# Altium integrated library Transistor.IntLib: 3457 symbols (part 32 of 78)
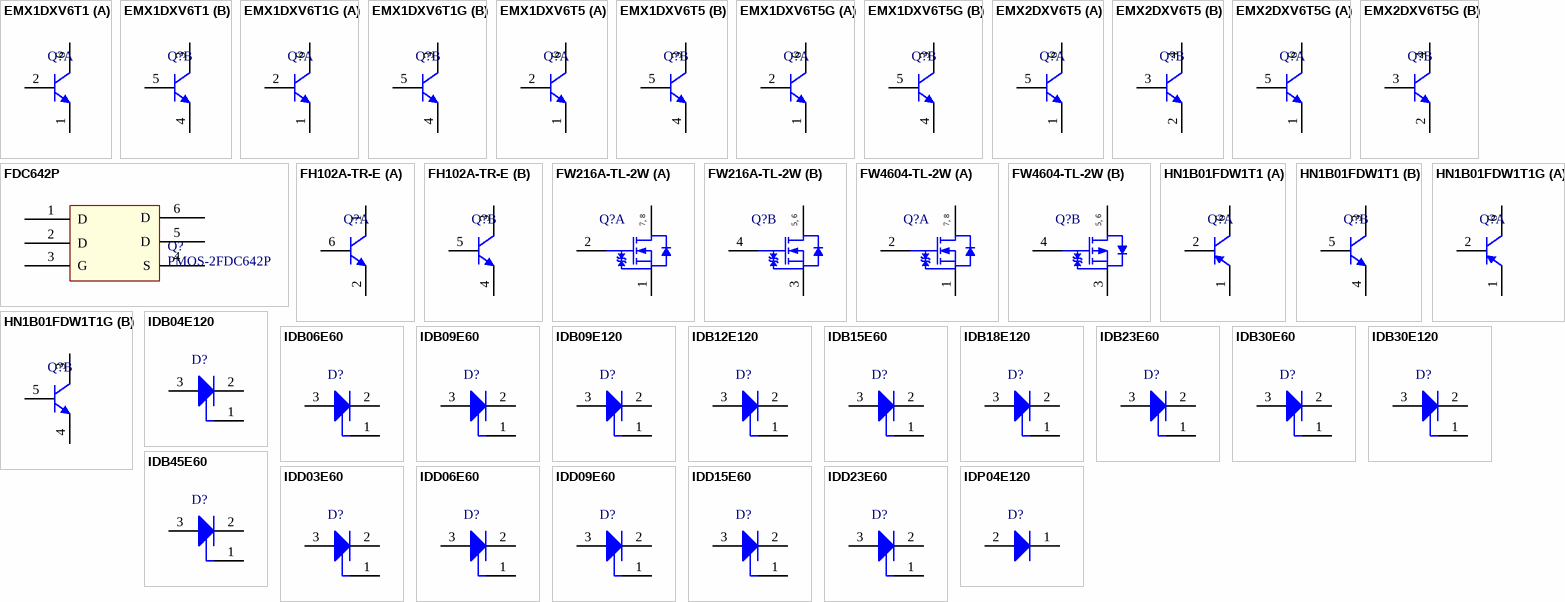
[diagram p125: symbols EMX1DXV6T1 to IDP04E120]

## IDD09E60
designator D?
Fast Switching EmCon Diode, -55 to 175 degC, PG-TO252-3-1, Reel, Green; Manufacturer: Infineon; PartNumber: IDD09E60; Green: TRUE; IF (max): 19.3 A; IF (typ): 9 A; IF,SM (max): 40 A; IR (max): 50 uA; Irrm (typ): 10.2 A; Ptot (max): 57.7 W; Qrr (typ): 343 nC; RthJC (max): 2.6 K/W; Trr (typ): 75 ns; VF (typ): 1.5 V; DatasheetVersion: Rev. 2.2; PackageVersion: Rev. 2.2, 04/2007; PackageReference: PG-TO252-3-1_A; PackageDescription: 3-Pin Plastic (Green) Transistor Single Outline Package, Body 6.565 x 6.1 mm, Pitch 2.28 mm; Supplier 1: Mouser; Supplier Part Number 1: 726-IDD09E60; Supplier 2: Digi-Key; Supplier Part Number 2: IDD09E60-ND; Packing: Reel; Mounting Technology: Surface Mount; ComponentLink1Description: Manufacturer URL; ComponentLink1URL: http://www.infineon.com/; ComponentLink2Description: Datasheet; ComponentLink2URL: http://www.infineon.com/dgdl/IDD09e60Grev2_2.pdf?folderId=db3a304412b407950112b438b6e36b79&fileId=db3a304412b407950112b438b76c6b7a; ComponentLink3Description: Package Specification; ComponentLink3URL: http://www.infineon.com/dgdl/IDD03E60Grev2_2.pdf?folderId=db3a304412b407950112b438b4176b74&fileId=db3a304412b407950112b438b49f6b75
footprint INF-PG-TO252-3-1_A_N (DPAK, 3-Leads, Body 6.565x6.1mm, Pitch 2.28mm, IPC Medium Density)
footprint INF-PG-TO252-3-1_A_L (DPAK, 3-Leads, Body 6.565x6.1mm, Pitch 2.28mm, IPC High Density)
footprint INF-PG-TO252-3-1_A_M (DPAK, 3-Leads, Body 6.565x6.1mm, Pitch 2.28mm, IPC Low Density)
pins: 1 NC, 2 K, 3 A

## IDD15E60
designator D?
Fast Switching EmCon Diode, -55 to 175 degC, PG-TO252-3-1, Reel, Green; Manufacturer: Infineon; PartNumber: IDD15E60; Green: TRUE; IF (max): 29.2 A; IF (typ): 15 A; IF,SM (max): 60 A; IR (max): 50 uA; Irrm (typ): 13.7 A; Ptot (max): 83.3 W; Qrr (typ): 595 nC; RthJC (max): 1.8 K/W; Trr (typ): 87 ns; VF (typ): 1.5 V; DatasheetVersion: Rev. 2.2; PackageVersion: Rev. 2.2, 04/2007; PackageReference: PG-TO252-3-1_A; PackageDescription: 3-Pin Plastic (Green) Transistor Single Outline Package, Body 6.565 x 6.1 mm, Pitch 2.28 mm; Supplier 1: Mouser; Supplier Part Number 1: 726-IDD15E60; Supplier 2: Digi-Key; Supplier Part Number 2: IDD15E60-ND; Packing: Reel; Mounting Technology: Surface Mount; ComponentLink1Description: Manufacturer URL; ComponentLink1URL: http://www.infineon.com/; ComponentLink2Description: Datasheet; ComponentLink2URL: http://www.infineon.com/dgdl/IDD15e60Grev2_2.pdf?folderId=db3a304412b407950112b408e8c90004&fileId=db3a304412b407950112b438e9ab6bca; ComponentLink3Description: Package Specification; ComponentLink3URL: http://www.infineon.com/dgdl/IDD03E60Grev2_2.pdf?folderId=db3a304412b407950112b438b4176b74&fileId=db3a304412b407950112b438b49f6b75
footprint INF-PG-TO252-3-1_A_N (DPAK, 3-Leads, Body 6.565x6.1mm, Pitch 2.28mm, IPC Medium Density)
footprint INF-PG-TO252-3-1_A_L (DPAK, 3-Leads, Body 6.565x6.1mm, Pitch 2.28mm, IPC High Density)
footprint INF-PG-TO252-3-1_A_M (DPAK, 3-Leads, Body 6.565x6.1mm, Pitch 2.28mm, IPC Low Density)
pins: 1 NC, 2 K, 3 A

## IDD23E60
designator D?
Fast Switching EmCon Diode, -55 to 175 degC, PG-TO252-3, Reel, Green; Manufacturer: Infineon; PartNumber: IDD23E60; Green: TRUE; Ptot (max): 115.4 W; DatasheetVersion: Rev. 2.2; PackageVersion: Apr-07; PackageReference: PG-TO252-3; PackageDescription: 3-Pin Plastic (Green) Transistor Single Outline Package, 6.565 x 6.1 mm Body, 2.28 mm Pitch; Supplier 1: Mouser; Supplier Part Number 1: N/A; Halogen-free: FALSE; Mounting Technology: Surface Mount; ComponentLink1Description: Manufacturer URL; ComponentLink1URL: http://www.infineon.com/; ComponentLink2Description: Datasheet; ComponentLink2URL: http://www.infineon.com/dgdl/IDD23e60Grev2_2.pdf?folderId=db3a304412b407950112b408e8c90004&fileId=db3a304412b407950112b438e1df6bc2; ComponentLink3Description: Package Specification; ComponentLink3URL: http://www.infineon.com/dgdl/IDD23e60Grev2_2.pdf?folderId=db3a304412b407950112b408e8c90004&fileId=db3a304412b407950112b438e1df6bc2
footprint INF-PG-TO252-3_B_N (DPAK, 3-Leads, Body 6.565x6.1mm, Pitch 2.28mm, IPC Medium Density)
footprint INF-PG-TO252-3_B_L (DPAK, 3-Leads, Body 6.565x6.1mm, Pitch 2.28mm, IPC High Density)
footprint INF-PG-TO252-3_B_M (DPAK, 3-Leads, Body 6.565x6.1mm, Pitch 2.28mm, IPC Low Density)
pins: 1 NC, 2 C, 3 A

## IDP04E120
designator D?
Fast Switching Diode, -55 to 150 degC, PG-TO220-2-1, Tube, Green; Manufacturer: Infineon; PartNumber: IDP04E120; Green: TRUE; IF (max): 11.2 A; IF (typ): 4 A; IF,SM (max): 28 A; IR (max): 100 uA; Irrm (typ): 7.15 A; Ptot (max): 43.1 W; Qrr (typ): 330 nC; RthJC (max): 2.9 K/W; Trr (typ): 115 ns; VF (typ): 1.65 V; DatasheetVersion: Rev. 2.3; PackageVersion: Rev. 01, 10/2008; PackageReference: PG-TO220-2-1; PackageDescription: 2-Pin Plastic (Green) Transistor Single Outline Package, Body 9.25 x 10 mm, Pitch 5.08 mm; Supplier 1: Mouser; Supplier Part Number 1: 726-IDP04E120; Supplier 2: Digi-Key; Supplier Part Number 2: IDP04E120-ND; Halogen-free: TRUE; Packing: Tube; Mounting Technology: Through Hole; ComponentLink1Description: Manufacturer URL; ComponentLink1URL: http://www.infineon.com/; ComponentLink2Description: Datasheet; ComponentLink2URL: http://www.infineon.com/dgdl/IDP04E120_v2_3G%5B1%5D.pdf?folderId=db3a304314dca38901151224afae0c96&fileId=db3a30432313ff5e01237a627ecb7bfd; ComponentLink3Description: Package Specification; ComponentLink3URL: http://www.infineon.com/dgdl/IDP09E120_v2_3G%5B1%5D.pdf?folderId=db3a304314dca38901151224afae0c96&fileId=db3a30432313ff5e01237a7d849d7c11
footprint INF-PG-TO220-2-1 (FM, 2-Leads, Body 10x4.4mm, Pitch 5.08mm)
pins: 1 K, 2 A

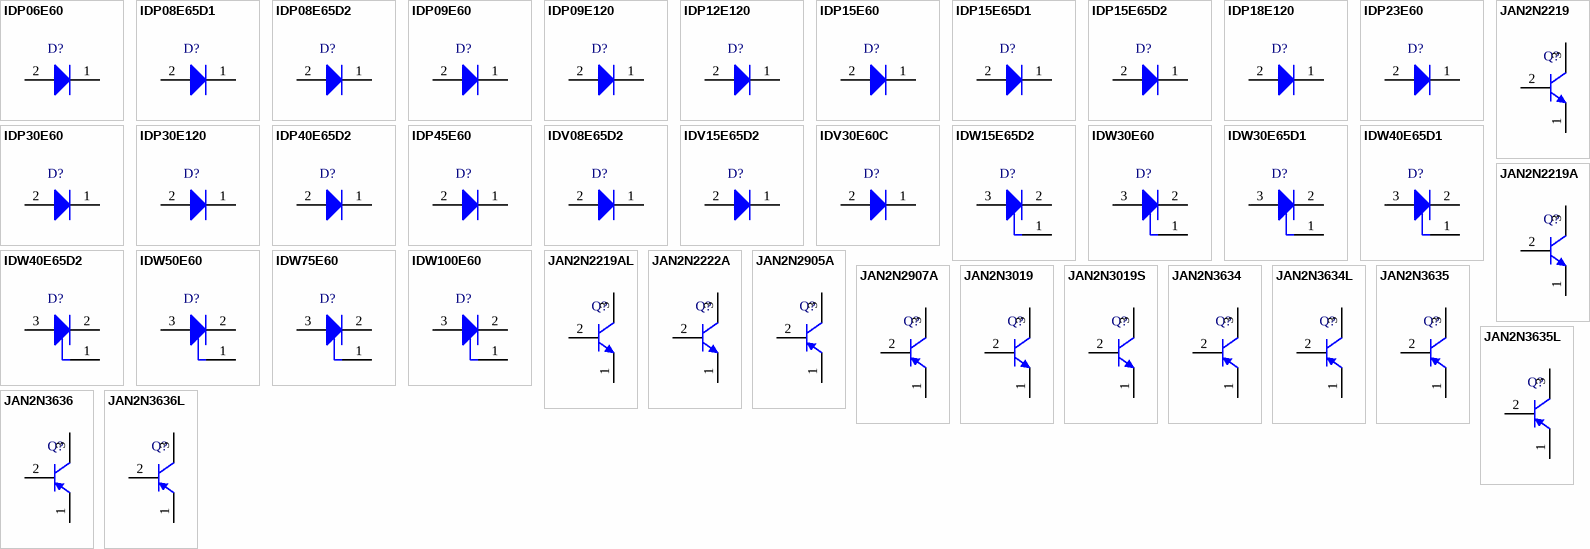
[diagram p37: symbols IDP06E60 to JAN2N3636L]

## IDP06E60
designator D?
Fast Switching Diode, -55 to 175 degC, PG-TO220-2, Tube, Green; Manufacturer: Infineon; PartNumber: IDP06E60; Green: TRUE; IF (max): 14.7 A; IF (typ): 6 A; IF,SM (max): 29 A; IR (max): 50 uA; Irrm (typ): 6.5 A; Ptot (max): 46.9 W; Qrr (typ): 240 nC; RthJC (max): 3.2 K/W; Trr (typ): 70 ns; VF (typ): 1.5 V; DatasheetVersion: Rev. 2.4; PackageVersion: Rev. 01, 10/2008; PackageReference: PG-TO220-2-1; PackageDescription: 2-Pin Plastic (Green) Transistor Single Outline Package, Body 9.25 x 10 mm, Pitch 5.08 mm; Supplier 1: Mouser; Supplier Part Number 1: 726-IDP06E60; Supplier 2: Digi-Key; Supplier Part Number 2: IDP06E60-ND; Halogen-free: TRUE; Packing: Tube; Mounting Technology: Through Hole; ComponentLink1Description: Manufacturer URL; ComponentLink1URL: http://www.infineon.com/; ComponentLink2Description: Datasheet; ComponentLink2URL: http://www.infineon.com/dgdl/IDP06E60_rev2_4G.pdf?folderId=db3a304314dca38901151224afae0c96&fileId=db3a30432313ff5e01237a0353657ba8; ComponentLink3Description: Package Specification; ComponentLink3URL: http://www.infineon.com/dgdl/IDP09E120_v2_3G%5B1%5D.pdf?folderId=db3a304314dca38901151224afae0c96&fileId=db3a30432313ff5e01237a7d849d7c11
footprint INF-PG-TO220-2-1 (FM, 2-Leads, Body 10x4.4mm, Pitch 5.08mm)
pins: 1 K, 2 A

## IDP08E65D1
designator D?
Rapid Switching Emitter Controlled Diode, -40 to 175 degC, PG-TO220-2-1, Tube, Green; Manufacturer: Infineon; PartNumber: IDP08E65D1; Green: TRUE; IF (typ): 8 A; IF,SM (max): 64 A; IR (max): 40 uA; Irrm (typ): 2.8 A; Ptot (max): 56 W; Qrr (typ): 0.17 uC; RthJC (max): 2.69 K/W; Trr (typ): 80 ns; VF (typ): 1.35 V; DatasheetVersion: Rev. 1.1; PackageVersion: Rev. 01, 10/2008; PackageReference: PG-TO220-2-1; PackageDescription: 2-Pin Plastic (Green) Transistor Single Outline Package, Body 9.25 x 10 mm, Pitch 5.08 mm; Supplier 1: Newark; Supplier Part Number 1: 33X0386; Supplier 2: Farnell; Supplier Part Number 2: 2363262; Halogen-free: TRUE; Packing: Tube; Mounting Technology: Through Hole; ComponentLink1Description: Manufacturer URL; ComponentLink1URL: http://www.infineon.com/; ComponentLink2Description: Datasheet; ComponentLink2URL: http://www.infineon.com/dgdl/IDP08E65D1_1_1.pdf?folderId=db3a304314dca38901151224afae0c96&fileId=db3a30433d6895c8013d68d2c3c80025; ComponentLink3Description: Package Specification; ComponentLink3URL: http://www.infineon.com/dgdl/IDP09E120_v2_3G%5B1%5D.pdf?folderId=db3a304314dca38901151224afae0c96&fileId=db3a30432313ff5e01237a7d849d7c11
footprint INF-PG-TO220-2-1 (FM, 2-Leads, Body 10x4.4mm, Pitch 5.08mm)
pins: 1 K, 2 A

## IDP08E65D2
designator D?
Rapid Switching Emitter Controlled Diode, -40 to 175 degC, PG-TO220-2-1, Tube, Green; Manufacturer: Infineon; PartNumber: IDP08E65D2; Green: TRUE; IF (typ): 8 A; IF,SM (max): 60 A; IR (max): 40 uA; Irrm (typ): 2.5 A; Ptot (max): 56 W; Qrr (typ): 0.08 uC; RthJC (max): 2.69 K/W; Trr (typ): 40 ns; VF (typ): 1.6 V; DatasheetVersion: Rev. 1.1; PackageVersion: Rev. 01, 10/2008; PackageReference: PG-TO220-2-1; PackageDescription: 2-Pin Plastic (Green) Transistor Single Outline Package, Body 9.25 x 10 mm, Pitch 5.08 mm; Supplier 1: Newark; Supplier Part Number 1: 33X0387; Supplier 2: Farnell; Supplier Part Number 2: 2363263; Halogen-free: TRUE; Packing: Tube; Mounting Technology: Through Hole; ComponentLink1Description: Manufacturer URL; ComponentLink1URL: http://www.infineon.com/; ComponentLink2Description: Datasheet; ComponentLink2URL: http://www.infineon.com/dgdl/DS_IDP08E65D2_1_1+%282%29.pdf?folderId=db3a304314dca38901151224afae0c96&fileId=db3a30433d68e984013d6944ca9a05e0; ComponentLink3Description: Package Specification; ComponentLink3URL: http://www.infineon.com/dgdl/IDP09E120_v2_3G%5B1%5D.pdf?folderId=db3a304314dca38901151224afae0c96&fileId=db3a30432313ff5e01237a7d849d7c11
footprint INF-PG-TO220-2-1 (FM, 2-Leads, Body 10x4.4mm, Pitch 5.08mm)
pins: 1 K, 2 A

## IDP09E60
designator D?
Fast Switching Diode, -55 to 175 degC, PG-TO220-2-1, Tube, Green; Manufacturer: Infineon; PartNumber: IDP09E60; Green: TRUE; Ptot (max): 57.7 W; DatasheetVersion: Rev. 2.4; PackageVersion: Rev. 01, 10/2008; PackageReference: PG-TO220-2-1; PackageDescription: 2-Pin Plastic (Green) Transistor Single Outline Package, Body 9.25 x 10 mm, Pitch 5.08 mm; Supplier 1: Mouser; Supplier Part Number 1: 726-IDP09E60; Halogen-free: FALSE; Mounting Technology: Through Hole; ComponentLink1Description: Manufacturer URL; ComponentLink1URL: http://www.infineon.com/; ComponentLink2Description: Datasheet; ComponentLink2URL: http://www.infineon.com/dgdl/IDP09E60_rev2_4G.pdf?folderId=db3a304412b407950112b438bee86b88&fileId=db3a304412b407950112b438bf706b89; ComponentLink3Description: Package Specification; ComponentLink3URL: http://www.infineon.com/dgdl/IDP09E120_v2_3G%5B1%5D.pdf?folderId=db3a304314dca38901151224afae0c96&fileId=db3a30432313ff5e01237a7d849d7c11
footprint INF-PG-TO220-2-1 (FM, 2-Leads, Body 10x4.4mm, Pitch 5.08mm)
pins: 1 C, 2 A

## IDP09E120
designator D?
Fast Switching Diode, -55 to 150 degC, PG-TO220-2, Tube, Green; Manufacturer: Infineon; PartNumber: IDP09E120; Green: TRUE; IF (max): 23 A; IF (typ): 9 A; IF,SM (max): 50 A; IR (max): 100 uA; Irrm (typ): 13.3 A; Ptot (max): 69 W; Qrr (typ): 950 nC; RthJC (max): 1.8 K/W; Trr (typ): 140 ns; VF (typ): 1.65 V; DatasheetVersion: Rev. 2.3; PackageVersion: Rev. 01, 10/2008; PackageReference: PG-TO220-2-1; PackageDescription: 2-Pin Plastic (Green) Transistor Single Outline Package, Body 9.25 x 10 mm, Pitch 5.08 mm; Supplier 1: Mouser; Supplier Part Number 1: 726-IDP09E120; Supplier 2: Digi-Key; Supplier Part Number 2: IDP09E120-ND; Halogen-free: TRUE; Packing: Tube; Mounting Technology: Through Hole; ComponentLink1Description: Manufacturer URL; ComponentLink1URL: http://www.infineon.com/; ComponentLink2Description: Datasheet; ComponentLink2URL: http://www.infineon.com/dgdl/IDP09E120_v2_3G%5B1%5D.pdf?folderId=db3a304314dca38901151224afae0c96&fileId=db3a30432313ff5e01237a7d849d7c11; ComponentLink3Description: Package Specification; ComponentLink3URL: http://www.infineon.com/dgdl/IDP09E120_v2_3G%5B1%5D.pdf?folderId=db3a304314dca38901151224afae0c96&fileId=db3a30432313ff5e01237a7d849d7c11
footprint INF-PG-TO220-2-1 (FM, 2-Leads, Body 10x4.4mm, Pitch 5.08mm)
pins: 1 K, 2 A

## IDP12E120
designator D?
Fast Switching Diode, -55 to 150 degC, PG-TO220-2, Tube, Green; Manufacturer: Infineon; PartNumber: IDP12E120; Green: TRUE; IF (max): 28 A; IF (typ): 12 A; IF,SM (max): 63 A; IR (max): 100 uA; Irrm (typ): 17 A; Ptot (max): 96 W; Qrr (typ): 1,200 nC; RthJC (max): 1.3 K/W; Trr (typ): 150 ns; VF (typ): 1.65 V; DatasheetVersion: Rev. 2.3; PackageVersion: Rev. 01, 10/2008; PackageReference: PG-TO220-2-1; PackageDescription: 2-Pin Plastic (Green) Transistor Single Outline Package, Body 9.25 x 10 mm, Pitch 5.08 mm; Supplier 1: Mouser; Supplier Part Number 1: 726-IDP12E120; Supplier 2: Digi-Key; Supplier Part Number 2: IDP12E120-ND; Halogen-free: TRUE; Packing: Tube; Mounting Technology: Through Hole; ComponentLink1Description: Manufacturer URL; ComponentLink1URL: http://www.infineon.com/; ComponentLink2Description: Datasheet; ComponentLink2URL: http://www.infineon.com/dgdl/IDP12E120_v2_3G%5B1%5D.pdf?folderId=db3a304314dca38901151224afae0c96&fileId=db3a30432313ff5e012374c3dade485b; ComponentLink3Description: Package Specification; ComponentLink3URL: http://www.infineon.com/dgdl/IDP09E120_v2_3G%5B1%5D.pdf?folderId=db3a304314dca38901151224afae0c96&fileId=db3a30432313ff5e01237a7d849d7c11
footprint INF-PG-TO220-2-1 (FM, 2-Leads, Body 10x4.4mm, Pitch 5.08mm)
pins: 1 K, 2 A

## IDP15E60
designator D?
Fast EmCon Diode, -55 to 175 degC, PG-TO220-2-1, Tube, Green; Manufacturer: Infineon; PartNumber: IDP15E60; Green: TRUE; IF (max): 29.2 A; IF (typ): 15 A; IF,SM (max): 60 A; IR (max): 50 uA; Irrm (typ): 13.7 A; Ptot (max): 83.3 W; Qrr (typ): 595 nC; RthJC (max): 1.8 K/W; Trr (typ): 87 ns; VF (typ): 1.5 V; DatasheetVersion: Rev. 2.4; PackageVersion: Rev. 01, 10/2008; PackageReference: PG-TO220-2-1; PackageDescription: 2-Pin Plastic (Green) Transistor Single Outline Package, Body 9.25 x 10 mm, Pitch 5.08 mm; Supplier 1: Mouser; Supplier Part Number 1: 726-IDP15E60; Supplier 2: Newark; Supplier Part Number 2: 47W3448; Supplier 3: Farnell; Supplier Part Number 3: 2212802; Supplier 4: Digi-Key; Supplier Part Number 4: IDP15E60-ND; Halogen-free: TRUE; Packing: Tube; Mounting Technology: Through Hole; ComponentLink1Description: Manufacturer URL; ComponentLink1URL: http://www.infineon.com/; ComponentLink2Description: Datasheet; ComponentLink2URL: http://www.infineon.com/dgdl/IDP15E60_rev2_4G.pdf?folderId=db3a304314dca38901151224afae0c96&fileId=db3a30432313ff5e01237a0a55787bbc; ComponentLink3Description: Package Specification; ComponentLink3URL: http://www.infineon.com/dgdl/IDP09E120_v2_3G%5B1%5D.pdf?folderId=db3a304314dca38901151224afae0c96&fileId=db3a30432313ff5e01237a7d849d7c11
footprint INF-PG-TO220-2-1 (FM, 2-Leads, Body 10x4.4mm, Pitch 5.08mm)
pins: 1 K, 2 A

## IDP15E65D1
designator D?
Rapid Switching Emitter Controlled Diode, -40 to 175 degC, PG-TO220-2-1, Tube, Green; Manufacturer: Infineon; PartNumber: IDP15E65D1; Green: TRUE; IF (typ): 15 A; IF,SM (max): 120 A; IR (max): 40 uA; Irrm (typ): 3.4 A; Ptot (max): 92 W; Qrr (typ): 0.28 uC; RthJC (max): 1.64 K/W; Trr (typ): 114 ns; VF (typ): 1.35 V; DatasheetVersion: Rev. 1.1; PackageVersion: Rev. 01, 10/2008; PackageReference: PG-TO220-2-1; PackageDescription: 2-Pin Plastic (Green) Transistor Single Outline Package, Body 9.25 x 10 mm, Pitch 5.08 mm; Supplier 1: Newark; Supplier Part Number 1: 33X0388; Supplier 2: Farnell; Supplier Part Number 2: 2363265; Halogen-free: TRUE; Packing: Tube; Mounting Technology: Through Hole; ComponentLink1Description: Manufacturer URL; ComponentLink1URL: http://www.infineon.com/; ComponentLink2Description: Datasheet; ComponentLink2URL: http://www.infineon.com/dgdl/IDP15E65D1_1_1+%282%29.pdf?folderId=db3a304314dca38901151224afae0c96&fileId=db3a30433d68e984013d691402dd0153; ComponentLink3Description: Package Specification; ComponentLink3URL: http://www.infineon.com/dgdl/IDP09E120_v2_3G%5B1%5D.pdf?folderId=db3a304314dca38901151224afae0c96&fileId=db3a30432313ff5e01237a7d849d7c11
footprint INF-PG-TO220-2-1 (FM, 2-Leads, Body 10x4.4mm, Pitch 5.08mm)
pins: 1 K, 2 A

## IDP15E65D2
designator D?
Rapid Switching Emitter Controlled Diode, -40 to 175 degC, PG-TO220-2-1, Tube, Green; Manufacturer: Infineon; PartNumber: IDP15E65D2; Green: TRUE; IF (typ): 15 A; IF,SM (max): 100 A; IR (max): 40 uA; Irrm (typ): 3.3 A; Ptot (max): 92 W; Qrr (typ): 0.07 uC; RthJC (max): 1.63 K/W; Trr (typ): 47 ns; VF (typ): 1.6 V; DatasheetVersion: Rev. 1.1; PackageVersion: Rev. 01, 10/2008; PackageReference: PG-TO220-2-1; PackageDescription: 2-Pin Plastic (Green) Transistor Single Outline Package, Body 9.25 x 10 mm, Pitch 5.08 mm; Supplier 1: Newark; Supplier Part Number 1: 33X0389; Supplier 2: Farnell; Supplier Part Number 2: 2363266; Halogen-free: TRUE; Packing: Tube; Mounting Technology: Through Hole; ComponentLink1Description: Manufacturer URL; ComponentLink1URL: http://www.infineon.com/; ComponentLink2Description: Datasheet; ComponentLink2URL: http://www.infineon.com/dgdl/DS_IDP15E65D2_1_1.pdf?folderId=db3a304314dca38901151224afae0c96&fileId=db3a30433d68e984013d69679d8b06a0; ComponentLink3Description: Package Specification; ComponentLink3URL: http://www.infineon.com/dgdl/IDP09E120_v2_3G%5B1%5D.pdf?folderId=db3a304314dca38901151224afae0c96&fileId=db3a30432313ff5e01237a7d849d7c11
footprint INF-PG-TO220-2-1 (FM, 2-Leads, Body 10x4.4mm, Pitch 5.08mm)
pins: 1 K, 2 A

## IDP18E120
designator D?
Fast Switching Diode, -55 to 150 degC, PG-TO220-2-1, Tube, Green; Manufacturer: Infineon; PartNumber: IDP18E120; Green: TRUE; IF (max): 31 A; IF (typ): 18 A; IF,SM (max): 78 A; IR (max): 100 uA; Irrm (typ): 20.2 A; Ptot (max): 113 W; Qrr (typ): 1,880 nC; RthJC (max): 1.1 K/W; Trr (typ): 195 ns; VF (typ): 1.65 V; DatasheetVersion: Rev. 2.3; PackageVersion: Rev. 01, 10/2008; PackageReference: PG-TO220-2-1; PackageDescription: 2-Pin Plastic (Green) Transistor Single Outline Package, Body 9.25 x 10 mm, Pitch 5.08 mm; Supplier 1: Mouser; Supplier Part Number 1: 726-IDP18E120; Supplier 2: Digi-Key; Supplier Part Number 2: IDP18E120-ND; Halogen-free: TRUE; Packing: Tube; Mounting Technology: Through Hole; ComponentLink1Description: Manufacturer URL; ComponentLink1URL: http://www.infineon.com/; ComponentLink2Description: Datasheet; ComponentLink2URL: http://www.infineon.com/dgdl/IDP18E120_v2_3G%5B1%5D.pdf?folderId=db3a304314dca38901151224afae0c96&fileId=db3a30432313ff5e01237a90bd2b7c24; ComponentLink3Description: Package Specification; ComponentLink3URL: http://www.infineon.com/dgdl/IDP09E120_v2_3G%5B1%5D.pdf?folderId=db3a304314dca38901151224afae0c96&fileId=db3a30432313ff5e01237a7d849d7c11
footprint INF-PG-TO220-2-1 (FM, 2-Leads, Body 10x4.4mm, Pitch 5.08mm)
pins: 1 K, 2 A

## IDP23E60
designator D?
Fast Switching Diode, -55 to 175 degC, PG-TO220-2, Tube, Green; Manufacturer: Infineon; PartNumber: IDP23E60; Green: TRUE; IF (max): 41 A; IF (typ): 23 A; IF,SM (max): 89 A; IR (max): 50 uA; Irrm (typ): 17 A; Ptot (max): 115 W; Qrr (typ): 970 nC; RthJC (max): 1.3 K/W; Trr (typ): 120 ns; VF (typ): 1.5 V; DatasheetVersion: Rev. 2.4; PackageVersion: Rev. 01, 10/2008; PackageReference: PG-TO220-2-1; PackageDescription: 2-Pin Plastic (Green) Transistor Single Outline Package, Body 9.25 x 10 mm, Pitch 5.08 mm; Supplier 1: Mouser; Supplier Part Number 1: 726-IDP23E60; Supplier 2: Digi-Key; Supplier Part Number 2: IDP23E60-ND; Halogen-free: TRUE; Packing: Tube; Mounting Technology: Through Hole; ComponentLink1Description: Manufacturer URL; ComponentLink1URL: http://www.infineon.com/; ComponentLink2Description: Datasheet; ComponentLink2URL: http://www.infineon.com/dgdl/IDP23E60_rev2_4G.pdf?folderId=db3a304314dca38901151224afae0c96&fileId=db3a30432313ff5e01237a0fb1467bc1; ComponentLink3Description: Package Specification; ComponentLink3URL: http://www.infineon.com/dgdl/IDP09E120_v2_3G%5B1%5D.pdf?folderId=db3a304314dca38901151224afae0c96&fileId=db3a30432313ff5e01237a7d849d7c11
footprint INF-PG-TO220-2-1 (FM, 2-Leads, Body 10x4.4mm, Pitch 5.08mm)
pins: 1 K, 2 A

## IDP30E60
designator D?
Fast Switching Diode, -55 to 175 degC, PG-TO220-2-1, Tube, Green; Manufacturer: Infineon; PartNumber: IDP30E60; Green: TRUE; IF (max): 52.3 A; IF (typ): 30 A; IF,SM (max): 117 A; IR (max): 50 uA; Irrm (typ): 19 A; Ptot (max): 142.9 W; Qrr (typ): 1,100 nC; RthJC (max): 15 K/W; Trr (typ): 126 ns; VF (typ): 1.5 V; DatasheetVersion: Rev. 2.4; PackageVersion: Rev. 01, 10/2008; PackageReference: PG-TO220-2-1; PackageDescription: 2-Pin Plastic (Green) Transistor Single Outline Package, Body 9.25 x 10 mm, Pitch 5.08 mm; Supplier 1: Mouser; Supplier Part Number 1: 726-IDP30E60; Supplier 2: Digi-Key; Supplier Part Number 2: IDP30E60-ND; Halogen-free: TRUE; Packing: Tube; Mounting Technology: Through Hole; ComponentLink1Description: Manufacturer URL; ComponentLink1URL: http://www.infineon.com/; ComponentLink2Description: Datasheet; ComponentLink2URL: http://www.infineon.com/dgdl/IDP30E60_rev2_4G.pdf?folderId=db3a304314dca38901151224afae0c96&fileId=db3a30432313ff5e01237a4486497bd5; ComponentLink3Description: Package Specification; ComponentLink3URL: http://www.infineon.com/dgdl/IDP09E120_v2_3G%5B1%5D.pdf?folderId=db3a304314dca38901151224afae0c96&fileId=db3a30432313ff5e01237a7d849d7c11
footprint INF-PG-TO220-2-1 (FM, 2-Leads, Body 10x4.4mm, Pitch 5.08mm)
pins: 1 K, 2 A

## IDP30E120
designator D?
Fast Switching Diode, -55 to 150 degC, PG-TO220-2, Tube, Green; Manufacturer: Infineon; PartNumber: IDP30E120; Green: TRUE; IF (max): 50 A; IF (typ): 30 A; IF,SM (max): 102 A; IR (max): 100 uA; Irrm (typ): 23.7 A; Ptot (max): 138 W; Qrr (typ): 2,630 nC; RthJC (max): 0.9 K/W; Trr (typ): 243 ns; VF (typ): 1.65 V; DatasheetVersion: Rev. 2.3; PackageVersion: Rev. 01, 10/2008; PackageReference: PG-TO220-2-1; PackageDescription: 2-Pin Plastic (Green) Transistor Single Outline Package, Body 9.25 x 10 mm, Pitch 5.08 mm; Supplier 1: Mouser; Supplier Part Number 1: 726-IDP30E120; Supplier 2: Digi-Key; Supplier Part Number 2: IDP30E120-ND; Halogen-free: TRUE; Packing: Tube; Mounting Technology: Through Hole; ComponentLink1Description: Manufacturer URL; ComponentLink1URL: http://www.infineon.com/; ComponentLink2Description: Datasheet; ComponentLink2URL: http://www.infineon.com/dgdl/IDP30E120_v2_3G%5B1%5D.pdf?folderId=db3a304314dca38901151224afae0c96&fileId=db3a30432313ff5e01237a96f3a77c37; ComponentLink3Description: Package Specification; ComponentLink3URL: http://www.infineon.com/dgdl/IDP09E120_v2_3G%5B1%5D.pdf?folderId=db3a304314dca38901151224afae0c96&fileId=db3a30432313ff5e01237a7d849d7c11
footprint INF-PG-TO220-2-1 (FM, 2-Leads, Body 10x4.4mm, Pitch 5.08mm)
pins: 1 K, 2 A

## IDP40E65D2
designator D?
Rapid Switching Emitter Controlled Diode, -40 to 175 degC, PG-TO220-2-1, Tube, Green; Manufacturer: Infineon; PartNumber: IDP40E65D2; Green: TRUE; IF (typ): 40 A; IF,SM (max): 250 A; IR (max): 40 uA; Irrm (typ): 2.9 A; Ptot (max): 200 W; Qrr (typ): 0.13 uC; RthJC (max): 0.75 K/W; Trr (typ): 75 ns; VF (typ): 1.6 V; DatasheetVersion: Rev. 1.2; PackageVersion: Rev. 01, 10/2008; PackageReference: PG-TO220-2-1; PackageDescription: 2-Pin Plastic (Green) Transistor Single Outline Package, Body 9.25 x 10 mm, Pitch 5.08 mm; Supplier 1: Newark; Supplier Part Number 1: 33X0390; Supplier 2: Farnell; Supplier Part Number 2: 2363267; Halogen-free: TRUE; Packing: Tube; Mounting Technology: Through Hole; ComponentLink1Description: Manufacturer URL; ComponentLink1URL: http://www.infineon.com/; ComponentLink2Description: Datasheet; ComponentLink2URL: http://www.infineon.com/dgdl/DS_IDP40E65D2_1_2+%282%29.pdf?folderId=db3a304314dca38901151224afae0c96&fileId=db3a30433d68e984013d6d2dcfde1b1a; ComponentLink3Description: Package Specification; ComponentLink3URL: http://www.infineon.com/dgdl/IDP09E120_v2_3G%5B1%5D.pdf?folderId=db3a304314dca38901151224afae0c96&fileId=db3a30432313ff5e01237a7d849d7c11
footprint INF-PG-TO220-2-1 (FM, 2-Leads, Body 10x4.4mm, Pitch 5.08mm)
pins: 1 K, 2 A

## IDP45E60
designator D?
Fast Switching Diode, -55 to 175 degC, PG-TO220-2-2, Tube, Green; Manufacturer: Infineon; PartNumber: IDP45E60; Green: TRUE; IF (max): 71 A; IF (typ): 45 A; IF,SM (max): 162 A; IR (max): 50 uA; Irrm (typ): 23 A; Ptot (max): 187 W; Qrr (typ): 1,400 nC; RthJC (max): 0.8 K/W; Trr (typ): 140 ns; VF (typ): 1.5 V; DatasheetVersion: Rev. 2.4; PackageVersion: Rev. 01, 12/2009; PackageReference: PG-TO220-2-2; PackageDescription: 2-Pin Plastic (Green) Transistor Single Outline Package, Body 9.68 x 10.5 mm, Pitch 5.08 mm; Supplier 1: Mouser; Supplier Part Number 1: 726-IDP45E60; Supplier 2: Digi-Key; Supplier Part Number 2: IDP45E60-ND; Halogen-free: TRUE; Packing: Tube; Mounting Technology: Through Hole; ComponentLink1Description: Manufacturer URL; ComponentLink1URL: http://www.infineon.com/; ComponentLink2Description: Datasheet; ComponentLink2URL: http://www.infineon.com/dgdl/IDP45E60_rev2_4G.pdf?folderId=db3a304314dca38901151224afae0c96&fileId=db3a30432313ff5e01237a518c6e7be9; ComponentLink3Description: Package Specification; ComponentLink3URL: http://www.infineon.com/dgdl/IDV06S60C_2_0.pdf?folderId=db3a304314dca38901151224afae0c96&fileId=db3a304325afd6e001264bd38b060cca
footprint INF-PG-TO220-2-2 (FM, 2-Leads, Body 10.5x4.7mm, Pitch 5.08mm)
pins: 1 K, 2 A

## IDV08E65D2
designator D?
Rapid Switching Emitter Controlled Diode, -40 to 175 degC, PG-TO220-2, Tube, Green; Manufacturer: Infineon; PartNumber: IDV08E65D2; Green: TRUE; IF (typ): 8 A; IF,SM (max): 60 A; IR (max): 40 uA; Irrm (typ): 2.5 A; Ptot (max): 27.3 W; Qrr (typ): 0.08 uC; RthJC (max): 5.5 K/W; Trr (typ): 40 ns; VF (typ): 1.6 V; DatasheetVersion: Rev. 1.1; PackageVersion: Rev. 01, 12/2009; PackageReference: PG-TO220-2-22; PackageDescription: 2-Pin Plastic (Green) Transistor Single Outline Package, Body 9.68 x 10.5 mm, Pitch 5.08 mm; Supplier 1: Newark; Supplier Part Number 1: 33X0391; Supplier 2: Farnell; Supplier Part Number 2: 2363268; Halogen-free: TRUE; Packing: Tube; Mounting Technology: Through Hole; ComponentLink1Description: Manufacturer URL; ComponentLink1URL: http://www.infineon.com/; ComponentLink2Description: Datasheet; ComponentLink2URL: http://www.infineon.com/dgdl/DS_IDV08E65D2_1_1.pdf?folderId=db3a304314dca38901151224afae0c96&fileId=db3a30433d68e984013d6956ef27064a; ComponentLink3Description: Package Specification; ComponentLink3URL: http://www.infineon.com/dgdl/DS_IDV30E60C_2_1.pdf?folderId=db3a304314dca38901151224afae0c96&fileId=db3a30432a14dd54012a1d527a0d562d
footprint INF-PG-TO220-2-22 (FM, 2-Leads, Body 10.5x4.7mm, Pitch 5.08mm)
pins: 1 K, 2 A

## IDV15E65D2
designator D?
Rapid Switching Emitter Controlled Diode, -40 to 175 degC, PG-TO220-2, Tube, Green; Manufacturer: Infineon; PartNumber: IDV15E65D2; Green: TRUE; IF (typ): 15 A; IF,SM (max): 100 A; IR (max): 40 uA; Irrm (typ): 3.3 A; Ptot (max): 34 W; Qrr (typ): 0.07 uC; RthJC (max): 4.4 K/W; Trr (typ): 47 ns; VF (typ): 1.6 V; DatasheetVersion: Rev. 1.1; PackageVersion: Rev. 01, 12/2009; PackageReference: PG-TO220-2-22; PackageDescription: 2-Pin Plastic (Green) Transistor Single Outline Package, Body 9.68 x 10.5 mm, Pitch 5.08 mm; Supplier 1: Newark; Supplier Part Number 1: 33X0392; Supplier 2: Farnell; Supplier Part Number 2: 2363269; Halogen-free: TRUE; Packing: Tube; Mounting Technology: Through Hole; ComponentLink1Description: Manufacturer URL; ComponentLink1URL: http://www.infineon.com/; ComponentLink2Description: Datasheet; ComponentLink2URL: http://www.infineon.com/dgdl/DS_IDV15E65D2_1_1.pdf?folderId=db3a304314dca38901151224afae0c96&fileId=db3a30433d68e984013d68f5dac7001f; ComponentLink3Description: Package Specification; ComponentLink3URL: http://www.infineon.com/dgdl/DS_IDV30E60C_2_1.pdf?folderId=db3a304314dca38901151224afae0c96&fileId=db3a30432a14dd54012a1d527a0d562d
footprint INF-PG-TO220-2-22 (FM, 2-Leads, Body 10.5x4.7mm, Pitch 5.08mm)
pins: 1 K, 2 A

## IDV30E60C
designator D?
Fast Switching Emitter Controlled Diode, -40 to 175 degC, PG-TO220-2-22, Tube, Green; Manufacturer: Infineon; PartNumber: IDV30E60C; Green: TRUE; IF (max): 21 A; IF (typ): 12 A; IR (max): 40 uA; Irrm (typ): 16.9 A; Ptot (max): 37 W; Qrr (typ): 880 nC; RthJC (max): 4 K/W; Trr (typ): 130 ns; VF (typ): 1.65 V; DatasheetVersion: Rev. 2.1; PackageVersion: Rev. 01, 12/2009; PackageReference: PG-TO220-2-22; PackageDescription: 2-Pin Plastic (Green) Transistor Single Outline Package, Body 9.68 x 10.5 mm, Pitch 5.08 mm; Supplier 1: Mouser; Supplier Part Number 1: 726-IDV30E60C; Supplier 2: Digi-Key; Supplier Part Number 2: IDV30E60C-ND; Halogen-free: TRUE; Packing: Tube; Mounting Technology: Through Hole; ComponentLink1Description: Manufacturer URL; ComponentLink1URL: http://www.infineon.com/; ComponentLink2Description: Datasheet; ComponentLink2URL: http://www.infineon.com/dgdl/DS_IDV30E60C_2_1.pdf?folderId=db3a304314dca38901151224afae0c96&fileId=db3a30432a14dd54012a1d527a0d562d; ComponentLink3Description: Package Specification; ComponentLink3URL: http://www.infineon.com/dgdl/DS_IDV30E60C_2_1.pdf?folderId=db3a304314dca38901151224afae0c96&fileId=db3a30432a14dd54012a1d527a0d562d
footprint INF-PG-TO220-2-22 (FM, 2-Leads, Body 10.5x4.7mm, Pitch 5.08mm)
pins: 1 K, 2 A

## IDW15E65D2
designator D?
Rapid Switching Emitter Controlled Diode, -40 to 175 degC, PG-TO247-3-44, Tube, Green; Manufacturer: Infineon; PartNumber: IDW15E65D2; Green: TRUE; IF (typ): 15 A; IF,SM (max): 100 A; IR (max): 40 uA; Irrm (typ): 3.3 A; Ptot (max): 85.7 W; Qrr (typ): 0.07 nC; RthJC (max): 1.75 K/W; Trr (typ): 47 ns; VF (typ): 1.6 V; DatasheetVersion: Rev. 1.1; PackageVersion: Rev. 05, 07/2010; PackageReference: PG-TO-247-3-44_A; PackageDescription: 3-Pin Plastic (Green) Transistor Single Outline Package, Body 20.95 x 15.915 mm, Pitch 5.44 mm; Supplier 1: Newark; Supplier Part Number 1: 33X0393; Supplier 2: Farnell; Supplier Part Number 2: 2363270; Halogen-free: available; Packing: Tube; Mounting Technology: Through Hole; ComponentLink1Description: Manufacturer URL; ComponentLink1URL: http://www.infineon.com/; ComponentLink2Description: Datasheet; ComponentLink2URL: http://www.infineon.com/dgdl/DS_IDW15E65D2_1_1.pdf?folderId=db3a304314dca38901151224afae0c96&fileId=db3a30433d68e984013d691f02ea019f; ComponentLink3Description: Package Specification; ComponentLink3URL: http://www.infineon.com/dgdl/IDW50E60_Rev+1.2.pdf?folderId=db3a304314dca38901151224afae0c96&fileId=db3a30433cd75ebf013cf1ddd0fb255a
footprint INF-PG-TO-247-3-44_A (FM, 3-Leads, Body 15.915x5.02mm, Pitch 5.44mm)
pins: 1 NC, 2 K, 3 A

## IDW30E60
designator D?
Fast Switching Emitter Controlled Diode, -40 to 175 degC, PG-TO247-3-44, Tube, Green; Manufacturer: Infineon; PartNumber: IDW30E60; IF (max): 120 A; IF (typ): 75 A; IF,SM (max): 150 A; IR (max): 40 uA; Irrm (typ): 13 A; Ptot (max): 143 W; Qrr (typ): 1,200 nC; RthJC (max): 15 K/W; Trr (typ): 143 ns; VF (typ): 1.65 V; DatasheetVersion: Rev. 1.1; PackageVersion: Rev. 05, 07/2010; PackageReference: PG-TO-247-3-44_A; PackageDescription: 3-Pin Plastic (Green) Transistor Single Outline Package, Body 20.95 x 15.915 mm, Pitch 5.44 mm; Packing: Tube; Mounting Technology: Through Hole; ComponentLink1Description: Manufacturer URL; ComponentLink1URL: http://www.infineon.com/; ComponentLink2Description: Datasheet; ComponentLink2URL: http://www.infineon.com/dgdl/IDW30E60_1_11.pdf?folderId=db3a30431ddc9372011ed0010fda1bd3&fileId=db3a3043338c8ac80133abdec5bc2fe3; ComponentLink3Description: Package Specification; ComponentLink3URL: http://www.infineon.com/dgdl/IDW50E60_Rev+1.2.pdf?folderId=db3a304314dca38901151224afae0c96&fileId=db3a30433cd75ebf013cf1ddd0fb255a
footprint INF-PG-TO-247-3-44_A (FM, 3-Leads, Body 15.915x5.02mm, Pitch 5.44mm)
pins: 1 NC, 2 K, 3 A

## IDW30E65D1
designator D?
Rapid Switching Emitter Controlled Diode, -40 to 175 degC, PG-TO247-3, Tube, Green; Manufacturer: Infineon; PartNumber: IDW30E65D1; Green: TRUE; IF (typ): 30 A; IF,SM (max): 240 A; IR (max): 40 uA; Irrm (typ): 5.4 A; Ptot (max): 142 W; Qrr (typ): 0.45 uC; RthJC (max): 16 K/W; Trr (typ): 115 ns; VF (typ): 1.35 V; DatasheetVersion: Rev. 1.1; PackageVersion: Rev. 05, 07/2010; PackageReference: PG-TO-247-3-44_A; PackageDescription: 3-Pin Plastic (Green) Transistor Single Outline Package, Body 20.95 x 15.915 mm, Pitch 5.44 mm; Supplier 1: Newark; Supplier Part Number 1: 33X0394; Supplier 2: Farnell; Supplier Part Number 2: 2363271; Halogen-free: available; Packing: Tube; Mounting Technology: Through Hole; ComponentLink1Description: Manufacturer URL; ComponentLink1URL: http://www.infineon.com/; ComponentLink2Description: Datasheet; ComponentLink2URL: http://www.infineon.com/dgdl/DS_IDW30E65D1_1_1.pdf?folderId=db3a304314dca38901151224afae0c96&fileId=db3a30433d68e984013d6929d1da01cc; ComponentLink3Description: Package Specification; ComponentLink3URL: http://www.infineon.com/dgdl/IDW50E60_Rev+1.2.pdf?folderId=db3a304314dca38901151224afae0c96&fileId=db3a30433cd75ebf013cf1ddd0fb255a
footprint INF-PG-TO-247-3-44_A (FM, 3-Leads, Body 15.915x5.02mm, Pitch 5.44mm)
pins: 1 NC, 2 K, 3 A

## IDW40E65D1
designator D?
Rapid Switching Emitter Controlled Diode, -40 to 175 degC, PG-TO247-3, Tube, Green; Manufacturer: Infineon; PartNumber: IDW40E65D1; Green: TRUE; IF (typ): 40 A; IF,SM (max): 320 A; IR (max): 40 uA; Irrm (typ): 6.9 A; Ptot (max): 179 W; Qrr (typ): 0.49 uC; RthJC (max): 0.84 K/W; Trr (typ): 129 ns; VF (typ): 1.35 V; DatasheetVersion: Rev. 1.1; PackageVersion: Rev. 05, 07/2010; PackageReference: PG-TO-247-3-44_A; PackageDescription: 3-Pin Plastic (Green) Transistor Single Outline Package, Body 20.95 x 15.915 mm, Pitch 5.44 mm; Supplier 1: Newark; Supplier Part Number 1: 33X0395; Supplier 2: Farnell; Supplier Part Number 2: 2363272; Halogen-free: available; Packing: Tube; Mounting Technology: Through Hole; ComponentLink1Description: Manufacturer URL; ComponentLink1URL: http://www.infineon.com/; ComponentLink2Description: Datasheet; ComponentLink2URL: http://www.infineon.com/dgdl/IDW40E65D1_1_1.pdf?folderId=db3a304314dca38901151224afae0c96&fileId=db3a30433d68e984013d693991d30215; ComponentLink3Description: Package Specification; ComponentLink3URL: http://www.infineon.com/dgdl/IDW50E60_Rev+1.2.pdf?folderId=db3a304314dca38901151224afae0c96&fileId=db3a30433cd75ebf013cf1ddd0fb255a
footprint INF-PG-TO-247-3-44_A (FM, 3-Leads, Body 15.915x5.02mm, Pitch 5.44mm)
pins: 1 NC, 2 K, 3 A

## IDW40E65D2
designator D?
Rapid Switching Emitter Controlled Diode, -40 to 175 degC, PG-TO247-3, Tube, Green; Manufacturer: Infineon; PartNumber: IDW40E65D2; Green: TRUE; IF (typ): 40 A; IF,SM (max): 320 A; IR (max): 40 uA; Irrm (typ): 2.9 A; Ptot (max): 180 W; Qrr (typ): 0.13 uC; RthJC (max): 0.84 K/W; Trr (typ): 75 ns; VF (typ): 1.6 V; DatasheetVersion: Rev. 1.1; PackageVersion: Rev. 05, 07/2010; PackageReference: PG-TO-247-3-44_A; PackageDescription: 3-Pin Plastic (Green) Transistor Single Outline Package, Body 20.95 x 15.915 mm, Pitch 5.44 mm; Supplier 1: Newark; Supplier Part Number 1: 33X0396; Supplier 2: Farnell; Supplier Part Number 2: 2363273; Halogen-free: TRUE; Packing: Tube; Mounting Technology: Through Hole; ComponentLink1Description: Manufacturer URL; ComponentLink1URL: http://www.infineon.com/; ComponentLink2Description: Datasheet; ComponentLink2URL: http://www.infineon.com/dgdl/DS_IDW40E65D2_1_1.pdf?folderId=db3a30431ddc9372011ed0010fda1bd3&fileId=db3a30433d68e984013d8226e10d7547; ComponentLink3Description: Package Specification; ComponentLink3URL: http://www.infineon.com/dgdl/IDW50E60_Rev+1.2.pdf?folderId=db3a304314dca38901151224afae0c96&fileId=db3a30433cd75ebf013cf1ddd0fb255a
footprint INF-PG-TO-247-3-44_A (FM, 3-Leads, Body 15.915x5.02mm, Pitch 5.44mm)
pins: 1 NC, 2 K, 3 A

## IDW50E60
designator D?
Fast Switching Emitter Controlled Diode, -40 to 175 degC, PG-TO247-3-44, Tube, Green; Manufacturer: Infineon; PartNumber: IDW50E60; Green: TRUE; IF (max): 80 A; IF (typ): 50 A; IF,SM (max): 240 A; IR (max): 40 uA; Irrm (typ): 30 A; Ptot (max): 187 W; Qrr (typ): 1,500 nC; RthJC (max): 0.8 K/W; Trr (typ): 115 ns; VF (typ): 1.65 V; DatasheetVersion: Rev. 1.2; PackageVersion: Rev. 05, 07/2010; PackageReference: PG-TO-247-3-44_A; PackageDescription: 3-Pin Plastic (Green) Transistor Single Outline Package, Body 20.95 x 15.915 mm, Pitch 5.44 mm; Halogen-free: available; Packing: Tube; Mounting Technology: Through Hole; ComponentLink1Description: Manufacturer URL; ComponentLink1URL: http://www.infineon.com/; ComponentLink2Description: Datasheet; ComponentLink2URL: http://www.infineon.com/dgdl/IDW50E60_Rev+1.2.pdf?folderId=db3a304314dca38901151224afae0c96&fileId=db3a30433cd75ebf013cf1ddd0fb255a; ComponentLink3Description: Package Specification; ComponentLink3URL: http://www.infineon.com/dgdl/IDW50E60_Rev+1.2.pdf?folderId=db3a304314dca38901151224afae0c96&fileId=db3a30433cd75ebf013cf1ddd0fb255a
footprint INF-PG-TO-247-3-44_A (FM, 3-Leads, Body 15.915x5.02mm, Pitch 5.44mm)
pins: 1 NC, 2 K, 3 A

## IDW75E60
designator D?
Ultra Soft Diode, -55 to 175 degC, PG-TO247-3-44, Tube, Green; Manufacturer: Infineon; PartNumber: IDW75E60; Green: TRUE; IF (max): 120 A; IF (typ): 75 A; IF,SM (max): 220 A; IR (max): 40 uA; Ptot (max): 300 W; Qrr (typ): 2,400 nC 3,600 nC; RthJC (max): 0.5 K/W; Trr (typ): 121 ns; VF (typ): 1.65 V; DatasheetVersion: Rev. 2.1; PackageVersion: Rev. 05, 07/2010; PackageReference: PG-TO-247-3-44_A; PackageDescription: 3-Pin Plastic (Green) Transistor Single Outline Package, Body 20.95 x 15.915 mm, Pitch 5.44 mm; Supplier 1: Mouser; Supplier Part Number 1: 726-IDW75E60; Supplier 2: Newark; Supplier Part Number 2: 47W3450; Supplier 3: Farnell; Supplier Part Number 3: 2212801; Supplier 4: Digi-Key; Supplier Part Number 4: IDW75E60-ND; Halogen-free: available; Packing: Tube; Mounting Technology: Through Hole; ComponentLink1Description: Manufacturer URL; ComponentLink1URL: http://www.infineon.com/; ComponentLink2Description: Datasheet; ComponentLink2URL: http://www.infineon.com/dgdl/IDW75E60_V2_1.pdf?folderId=db3a304412b407950112b408e8c90004&fileId=db3a304412b407950112b438de4f6bbe; ComponentLink3Description: Package Specification; ComponentLink3URL: http://www.infineon.com/dgdl/IDW50E60_Rev+1.2.pdf?folderId=db3a304314dca38901151224afae0c96&fileId=db3a30433cd75ebf013cf1ddd0fb255a
footprint INF-PG-TO-247-3-44_A (FM, 3-Leads, Body 15.915x5.02mm, Pitch 5.44mm)
pins: 1 NC, 2 K, 3 A

## IDW100E60
designator D?
Fast Switching EmCon Diode, -55 to 175 degC, PG-TO247-3, Tube, Green; Manufacturer: Infineon; PartNumber: IDW100E60; Green: TRUE; IF (max): 150 A; IF (typ): 100 A; IF,SM (max): 400 A; IR (max): 40 uA; Ptot (max): 375 W; Qrr (typ): 3.6 nC; RthJC (max): 0.4 K/W; Trr (typ): 120 ns; VF (typ): 1.65 V; DatasheetVersion: Rev. 2.1; PackageVersion: Rev. 05, 07/2010; PackageReference: PG-TO-247-3-44_A; PackageDescription: 3-Pin Plastic (Green) Transistor Single Outline Package, Body 20.95 x 15.915 mm, Pitch 5.44 mm; Supplier 1: Mouser; Supplier Part Number 1: 726-IDW100E60; Supplier 2: Newark; Supplier Part Number 2: 47W3449; Supplier 3: Farnell; Supplier Part Number 3: 2212800; Supplier 4: Digi-Key; Supplier Part Number 4: IDW100E60-ND; Halogen-free: available; Packing: Tube; Mounting Technology: Through Hole; ComponentLink1Description: Manufacturer URL; ComponentLink1URL: http://www.infineon.com/; ComponentLink2Description: Datasheet; ComponentLink2URL: http://www.infineon.com/dgdl/IDW100E60_V2_1.pdf?folderId=db3a304412b407950112b408e8c90004&fileId=db3a304412b407950112b438da286bba; ComponentLink3Description: Package Specification; ComponentLink3URL: http://www.infineon.com/dgdl/IDW50E60_Rev+1.2.pdf?folderId=db3a304314dca38901151224afae0c96&fileId=db3a30433cd75ebf013cf1ddd0fb255a
footprint INF-PG-TO-247-3-44_A (FM, 3-Leads, Body 15.915x5.02mm, Pitch 5.44mm)
pins: 1 NC, 2 K, 3 A

## JAN2N2219
designator Q?
Small Signal Switching Transistor, NPN Silicon, 3-Pin TO-39, Bulk Box; Manufacturer: On Semiconductor; PartNumber: JAN2N2219; IC Continuous (A): 0.8; DatasheetVersion: Rev. 1; PackageVersion: Rev. A, 06/2012; PackageReference: TO-39-3-205AB; PackageDescription: 3-Pin Transistor Outline, Diameter 9.145 mm; Supplier 1: Newark; Supplier Part Number 1: 45W8316; Supplier 2: Mouser; Supplier Part Number 2: 863-JAN2N2219; Packing: Bulk Box; Polarity: NPN; RoHS: FALSE; Mounting Technology: Through Hole; ComponentLink1Description: Manufacturer URL; ComponentLink1URL: http://www.onsemi.com/; ComponentLink2Description: Datasheet; ComponentLink2URL: http://www.onsemi.com/pub_link/Collateral/2N2219-D.PDF; ComponentLink3Description: Package Specification; ComponentLink3URL: http://www.onsemi.com/pub_link/Collateral/205AB.PDF
footprint ONSC-TO-39-3-205AB (TO, 3-Leads, Diameter 9.145 mm)
pins: 1 E, 2 B, 3 C

## JAN2N2219A
designator Q?
Small Signal Switching Transistor, NPN Silicon, 3-Pin TO-39, Bulk Box; Manufacturer: On Semiconductor; PartNumber: JAN2N2219A; IC Continuous (A): 0.8; DatasheetVersion: Rev. 1; PackageVersion: Rev. A, 06/2012; PackageReference: TO-39-3-205AB; PackageDescription: 3-Pin Transistor Outline, Diameter 9.145 mm; Supplier 1: Newark; Supplier Part Number 1: 45W8317; Supplier 2: Mouser; Supplier Part Number 2: 863-JAN2N2219A; Packing: Bulk Box; Polarity: NPN; RoHS: FALSE; Mounting Technology: Through Hole; ComponentLink1Description: Manufacturer URL; ComponentLink1URL: http://www.onsemi.com/; ComponentLink2Description: Datasheet; ComponentLink2URL: http://www.onsemi.com/pub_link/Collateral/2N2219-D.PDF; ComponentLink3Description: Package Specification; ComponentLink3URL: http://www.onsemi.com/pub_link/Collateral/205AB.PDF
footprint ONSC-TO-39-3-205AB (TO, 3-Leads, Diameter 9.145 mm)
pins: 1 E, 2 B, 3 C

## JAN2N2219AL
designator Q?
Small Signal Switching Transistor, NPN Silicon, 3-Pin TO-5, Bulk Box; Manufacturer: On Semiconductor; PartNumber: JAN2N2219AL; IC Continuous (A): 0.8; DatasheetVersion: Rev. 1; PackageVersion: Rev. B, 07/2012; PackageReference: TO-5-3-205AA; PackageDescription: 3-Pin Transistor Outline, Diameter 9.145 mm; Supplier 1: Mouser; Supplier Part Number 1: 863-JAN2N2219AL; Packing: Bulk Box; Polarity: NPN; RoHS: FALSE; Mounting Technology: Through Hole; ComponentLink1Description: Manufacturer URL; ComponentLink1URL: http://www.onsemi.com/; ComponentLink2Description: Datasheet; ComponentLink2URL: http://www.onsemi.com/pub_link/Collateral/2N2219-D.PDF; ComponentLink3Description: Package Specification; ComponentLink3URL: http://www.onsemi.com/pub_link/Collateral/205AA.PDF
footprint ONSC-TO-5-3-205AA (TO, 3-Leads, Diameter 9.145 mm)
pins: 1 E, 2 B, 3 C

## JAN2N2222A
designator Q?
Small Signal Switching Transistor, NPN Silicon, 3-Pin TO-18, Bulk Box; Manufacturer: On Semiconductor; PartNumber: JAN2N2222A; IC Continuous (A): 0.8; DatasheetVersion: Rev. 2; PackageVersion: Rev. A, 08/2012; PackageReference: TO-18-3-206AA; PackageDescription: 3-Pin Transistor Outline, Diameter 5.575 mm; Supplier 1: Newark; Supplier Part Number 1: 45W8319; Supplier 2: Mouser; Supplier Part Number 2: 863-JAN2N2222A; Packing: Bulk Box; Polarity: NPN; RoHS: FALSE; Mounting Technology: Through Hole; ComponentLink1Description: Manufacturer URL; ComponentLink1URL: http://www.onsemi.com/; ComponentLink2Description: Datasheet; ComponentLink2URL: http://www.onsemi.com/pub_link/Collateral/2N2222A-D.PDF; ComponentLink3Description: Package Specification; ComponentLink3URL: http://www.onsemi.com/pub_link/Collateral/206AA.PDF
footprint ONSC-TO-18-3-206AA (TO, 3-Leads, Diameter 5.575 mm)
pins: 1 E, 2 B, 3 C

## JAN2N2905A
designator Q?
Small Signal Switching Transistor, PNP Silicon, 3-Pin TO-39, Bulk Box; Manufacturer: On Semiconductor; PartNumber: JAN2N2905A; IC Continuous (A): -0.6; DatasheetVersion: Rev. 2; PackageVersion: Rev. A, 06/2012; PackageReference: TO-39-3-205AB; PackageDescription: 3-Pin Transistor Outline, Diameter 9.145 mm; Supplier 1: Newark; Supplier Part Number 1: 76T6066; Supplier 2: Mouser; Supplier Part Number 2: 863-JAN2N2905A; Packing: Bulk Box; Polarity: PNP; RoHS: FALSE; Mounting Technology: Through Hole; ComponentLink1Description: Manufacturer URL; ComponentLink1URL: http://www.onsemi.com/; ComponentLink2Description: Datasheet; ComponentLink2URL: http://www.onsemi.com/pub_link/Collateral/2N2905A-D.PDF; ComponentLink3Description: Package Specification; ComponentLink3URL: http://www.onsemi.com/pub_link/Collateral/205AB.PDF
footprint ONSC-TO-39-3-205AB (TO, 3-Leads, Diameter 9.145 mm)
pins: 1 E, 2 B, 3 C

## JAN2N2907A
designator Q?
Small Signal Switching Transistor, PNP Silicon, 3-Pin TO-18, Bulk Box; Manufacturer: On Semiconductor; PartNumber: JAN2N2907A; IC Continuous (A): -0.6; DatasheetVersion: Rev. 3; PackageVersion: Rev. A, 08/2012; PackageReference: TO-18-3-206AA; PackageDescription: 3-Pin Transistor Outline, Diameter 5.575 mm; Supplier 1: Newark; Supplier Part Number 1: 76T6067; Supplier 2: Mouser; Supplier Part Number 2: 863-JAN2N2907A; Packing: Bulk Box; Polarity: PNP; RoHS: FALSE; Mounting Technology: Through Hole; ComponentLink1Description: Manufacturer URL; ComponentLink1URL: http://www.onsemi.com/; ComponentLink2Description: Datasheet; ComponentLink2URL: http://www.onsemi.com/pub_link/Collateral/2N2907A-D.PDF; ComponentLink3Description: Package Specification; ComponentLink3URL: http://www.onsemi.com/pub_link/Collateral/206AA.PDF
footprint ONSC-TO-18-3-206AA (TO, 3-Leads, Diameter 5.575 mm)
pins: 1 E, 2 B, 3 C

## JAN2N3019
designator Q?
Low Power Transistor, NPN Silicon, 3-Pin TO-5, Bulk Box; Manufacturer: On Semiconductor; PartNumber: JAN2N3019; IC Continuous (A): 1; DatasheetVersion: Rev. 2; PackageVersion: Rev. B, 07/2012; PackageReference: TO-5-3-205AA; PackageDescription: 3-Pin Transistor Outline, Diameter 9.145 mm; Supplier 1: Newark; Supplier Part Number 1: 76T6068; Supplier 2: Mouser; Supplier Part Number 2: 863-JAN2N3019; Packing: Bulk Box; Polarity: NPN; RoHS: FALSE; Mounting Technology: Through Hole; ComponentLink1Description: Manufacturer URL; ComponentLink1URL: http://www.onsemi.com/; ComponentLink2Description: Datasheet; ComponentLink2URL: http://www.onsemi.com/pub_link/Collateral/2N3019-D.PDF; ComponentLink3Description: Package Specification; ComponentLink3URL: http://www.onsemi.com/pub_link/Collateral/205AA.PDF
footprint ONSC-TO-5-3-205AA (TO, 3-Leads, Diameter 9.145 mm)
pins: 1 E, 2 B, 3 C

## JAN2N3019S
designator Q?
Low Power Transistor, NPN Silicon, 3-Pin TO-39, Bulk Box; Manufacturer: On Semiconductor; PartNumber: JAN2N3019S; IC Continuous (A): 1; DatasheetVersion: Rev. 2; PackageVersion: Rev. A, 06/2012; PackageReference: TO-39-3-205AB; PackageDescription: 3-Pin Transistor Outline, Diameter 9.145 mm; Supplier 1: Newark; Supplier Part Number 1: 76T6069; Packing: Bulk Box; Polarity: NPN; RoHS: FALSE; Mounting Technology: Through Hole; ComponentLink1Description: Manufacturer URL; ComponentLink1URL: http://www.onsemi.com/; ComponentLink2Description: Datasheet; ComponentLink2URL: http://www.onsemi.com/pub_link/Collateral/2N3019-D.PDF; ComponentLink3Description: Package Specification; ComponentLink3URL: http://www.onsemi.com/pub_link/Collateral/205AB.PDF
footprint ONSC-TO-39-3-205AB (TO, 3-Leads, Diameter 9.145 mm)
pins: 1 E, 2 B, 3 C

## JAN2N3634
designator Q?
Low Power Transistor, PNP Silicon, 3-Pin TO-39, Bulk Box; Manufacturer: On Semiconductor; PartNumber: JAN2N3634; IC Continuous (A): 1; DatasheetVersion: Rev. 1; PackageVersion: Rev. A, 06/2012; PackageReference: TO-39-3-205AB; PackageDescription: 3-Pin Transistor Outline, Diameter 9.145 mm; Supplier 1: Newark; Supplier Part Number 1: 72W1886; Packing: Bulk Box; Polarity: PNP; RoHS: FALSE; Mounting Technology: Through Hole; ComponentLink1Description: Manufacturer URL; ComponentLink1URL: http://www.onsemi.com/; ComponentLink2Description: Datasheet; ComponentLink2URL: http://www.onsemi.com/pub_link/Collateral/2N3637-D.PDF; ComponentLink3Description: Package Specification; ComponentLink3URL: http://www.onsemi.com/pub_link/Collateral/205AB.PDF
footprint ONSC-TO-39-3-205AB (TO, 3-Leads, Diameter 9.145 mm)
pins: 1 E, 2 B, 3 C

## JAN2N3634L
designator Q?
Low Power Transistor, PNP Silicon, 3-Pin TO-5, Bulk Box; Manufacturer: On Semiconductor; PartNumber: JAN2N3634L; IC Continuous (A): 1; DatasheetVersion: Rev. 1; PackageVersion: Rev. B, 07/2012; PackageReference: TO-5-3-205AA; PackageDescription: 3-Pin Transistor Outline, Diameter 9.145 mm; Supplier 1: Newark; Supplier Part Number 1: 72W1887; Packing: Bulk Box; Polarity: PNP; RoHS: FALSE; Mounting Technology: Through Hole; ComponentLink1Description: Manufacturer URL; ComponentLink1URL: http://www.onsemi.com/; ComponentLink2Description: Datasheet; ComponentLink2URL: http://www.onsemi.com/pub_link/Collateral/2N3637-D.PDF; ComponentLink3Description: Package Specification; ComponentLink3URL: http://www.onsemi.com/pub_link/Collateral/205AA.PDF
footprint ONSC-TO-5-3-205AA (TO, 3-Leads, Diameter 9.145 mm)
pins: 1 E, 2 B, 3 C

## JAN2N3635
designator Q?
Low Power Transistor, PNP Silicon, 3-Pin TO-39, Bulk Box; Manufacturer: On Semiconductor; PartNumber: JAN2N3635; IC Continuous (A): 1; DatasheetVersion: Rev. 1; PackageVersion: Rev. A, 06/2012; PackageReference: TO-39-3-205AB; PackageDescription: 3-Pin Transistor Outline, Diameter 9.145 mm; Supplier 1: Newark; Supplier Part Number 1: 72W1888; Packing: Bulk Box; Polarity: PNP; RoHS: FALSE; Mounting Technology: Through Hole; ComponentLink1Description: Manufacturer URL; ComponentLink1URL: http://www.onsemi.com/; ComponentLink2Description: Datasheet; ComponentLink2URL: http://www.onsemi.com/pub_link/Collateral/2N3637-D.PDF; ComponentLink3Description: Package Specification; ComponentLink3URL: http://www.onsemi.com/pub_link/Collateral/205AB.PDF
footprint ONSC-TO-39-3-205AB (TO, 3-Leads, Diameter 9.145 mm)
pins: 1 E, 2 B, 3 C